# EAGLE library part TD-103-T-A (library TD-103-T-A)
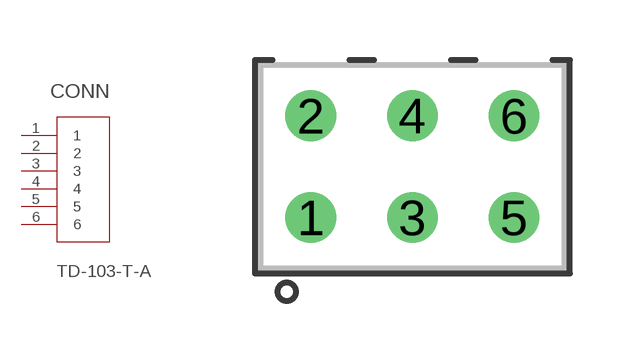
[diagram p0: symbol with the pads of CON6_2X3_TU_HTS_SAI; footprint CON6_2X3_TU_HTS_SAI]

Designator prefix CONN

## TD-103-T-ACON6_2X3_TU_HTS_SAI (COPYRIGHT: Copyright (C) 2023 Ultra Librarian. All rights reserved.; MANUFACTURER_PART_NUMBER: TD-103-T-A; MFR_NAME: Samtec Inc)  [CON6_2X3_TU_HTS_SAI]
1  1  pas
2  2  pas
3  3  pas
4  4  pas
5  5  pas
6  6  pas

## Footprint CON6_2X3_TU_HTS_SAI (pad centres in mm)
drill 0.711 pad 1.27: 1 -2.54,-1.27; 2 -2.54,1.27; 3 0,-1.27; 4 0,1.27; 5 2.54,-1.27; 6 2.54,1.27